# Altium footprint library Weerstation1.PcbLib: 25 footprints (part 1 of 2)
Each footprint in its own frame and in the unit in brackets; x right, y up, seen from the top. Pads: shape width x height; smd on the part's side, far side on the other; paste and mask are expansions set on the pad; w line width, h text height; cw(c..) or ccw(c..) is an arc to the next point about the centre after c.
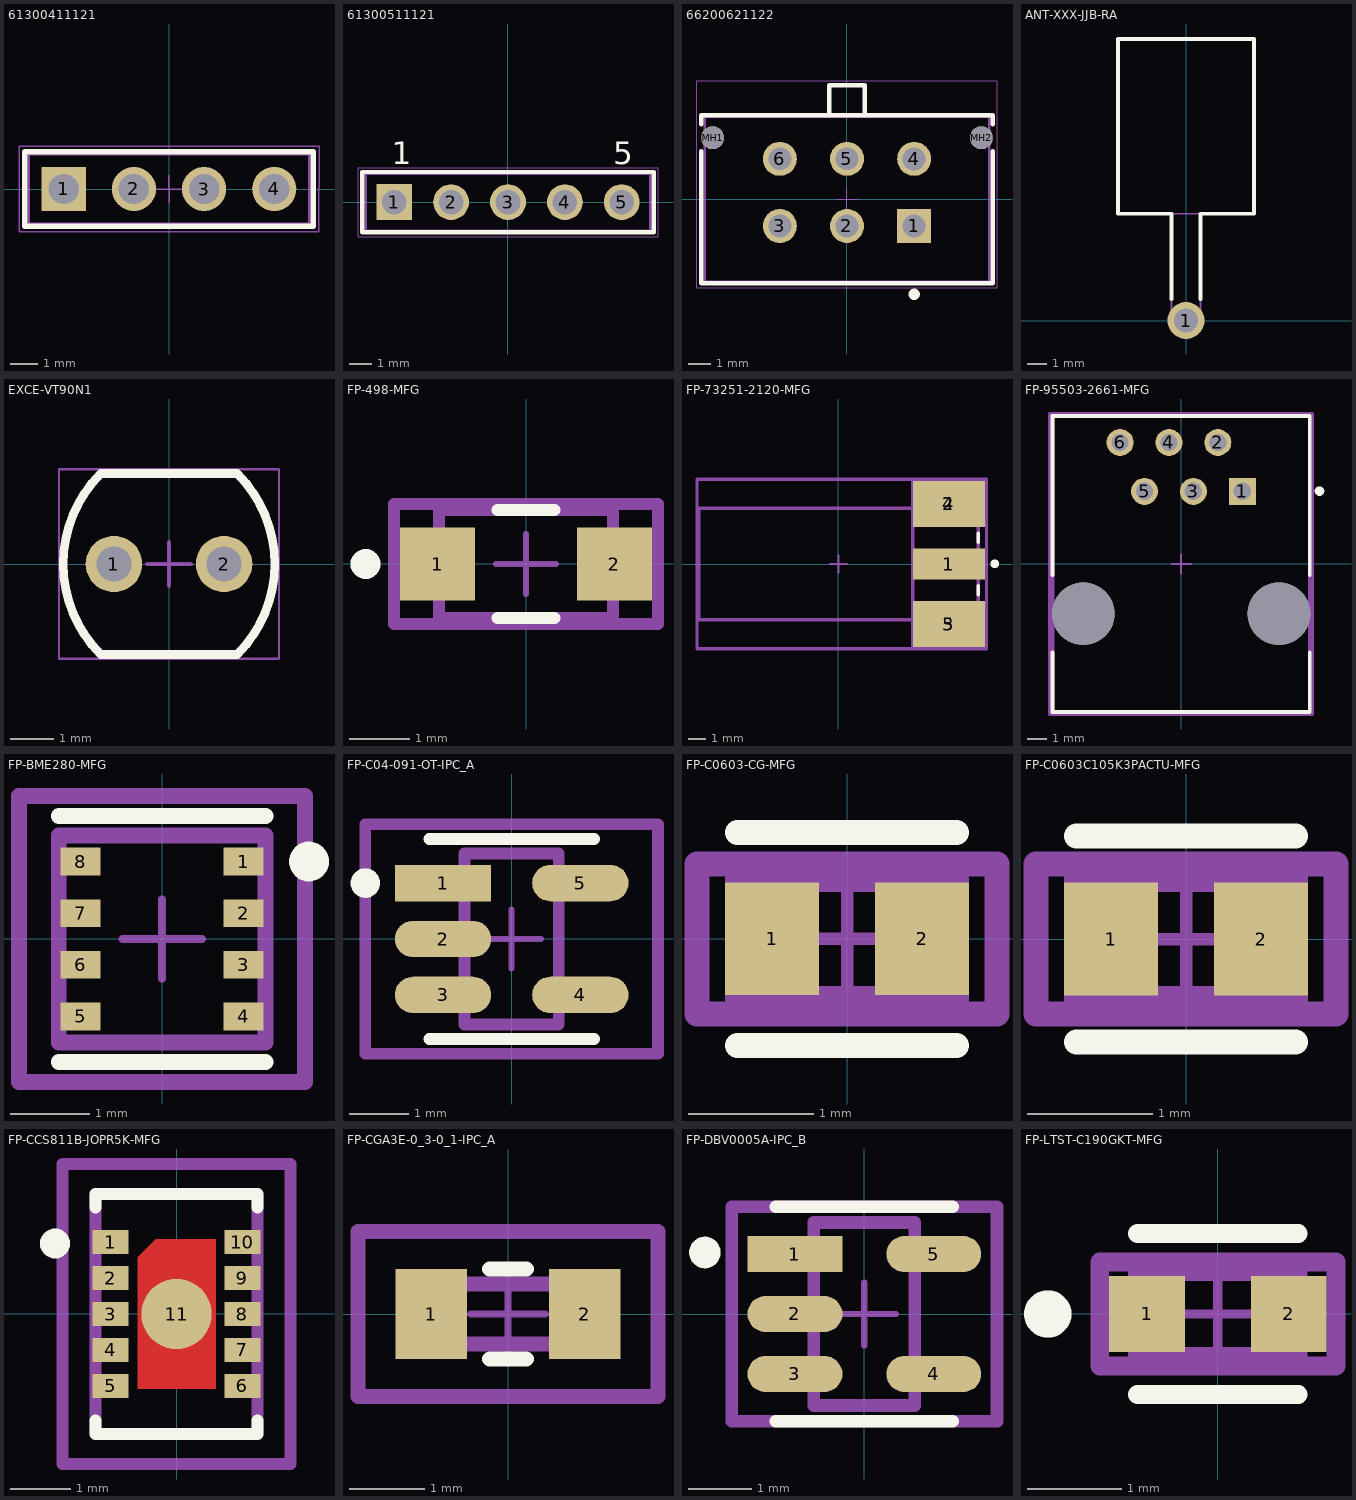
[diagram p0: the footprints below, top view; thin cyan lines are the x and y axes]

## 61300411121 [mm] "Pin Header, pitch 2.54 mm, THT, Vertical, single row, 4p"
height 8.54
pads (4):
  rect 1.6x1.6 hole 1.1: 1(-3.81,0)
  round 1.6 hole 1.1: 2(-1.27,0) 3(1.27,0) 4(3.81,0)
Top Overlay:
  lines w0.2: -5.23,-1.345 5.23,-1.345 5.23,1.345 -5.23,1.345 -5.23,-1.345
Mechanical 13:
  lines w0.1: -5.08,-1.27 -5.08,1.27 5.08,1.27 5.08,-1.27 -5.08,-1.27
Mechanical 15:
  lines w0.05: -0.5,0 0.5,0 ; 0,-0.5 0,0.5 ; -5.43,-1.545 -5.43,1.545 5.43,1.545 5.43,-1.545 -5.43,-1.545
3D body "61300411121.stp": height 8.57, standoff -2.97, extent -5.08,-1.27 5.08,1.27

## 61300511121 [mm] "Pin Header, pitch 2.54 mm, THT, Vertical, single row, 5p"
height 8.54
pads (5):
  rect 1.6x1.6 hole 1.1: 1(-5.08,0)
  round 1.6 hole 1.1: 2(-2.54,0) 3(0,0) 4(2.54,0) 5(5.08,0)
Top Overlay:
  lines w0.2: -6.5,-1.345 6.5,-1.345 6.5,1.345 -6.5,1.345 -6.5,-1.345
  text "1" at -5.2,1.7 h1.02
  text "5" at 4.7,1.7 h1.02
Mechanical 13:
  lines w0.1: -6.35,-1.27 -6.35,1.27 6.35,1.27 6.35,-1.27 -6.35,-1.27
Mechanical 15:
  lines w0.05: -0.5,0 0.5,0 ; 0,-0.5 0,0.5 ; -6.7,-1.545 -6.7,1.545 6.7,1.545 6.7,-1.545 -6.7,-1.545
3D body "61300511121.stp": height 8.57, standoff -2.97, extent -6.35,-1.27 6.35,1.27

## 66200621122 [mm] "Dual row Vertical header 06p"
height 9.9
pads (8):
  rect 1.52x1.52 hole 1.02: 1(3,-1.2)
  round 1.52 hole 1.02: 2(0,-1.2) 3(-3,-1.2) 4(3,1.8) 5(0,1.8) 6(-3,1.8)
  round 1.02 hole 1.02 unplated: MH1(-6,2.74) MH2(6,2.74)
Top Overlay:
  circle w0.25: c3,-4.25 r0.125
  lines w0.2: -6.5,2.145 -6.5,-3.755 6.5,-3.755 6.5,2.145 ; -6.5,3.345 -6.5,3.755 6.5,3.755 6.5,3.345 ; -0.8,3.755 -0.8,5.08 0.8,5.08 0.8,3.755
Mechanical 13:
  lines w0.1: -0.8,3.68 -0.8,5.08 0.8,5.08 0.8,3.68 ; -6.35,-3.68 -6.35,3.68 6.35,3.68 6.35,-3.68 -6.35,-3.68
Mechanical 15:
  lines w0.05: -0.5,0 0.5,0 ; 0,-0.5 0,0.5 ; -6.7,-3.955 -6.7,5.28 6.7,5.28 6.7,-3.955 -6.7,-3.955
3D body "66200621122.stp": height 9.93, standoff -3.17, extent -6.35,-3.68 6.35,5.08

## ANT-XXX-JJB-RA [mil] "Antenna, 1-Lead, Thru-Hole, Right-Angle, Body 7.0x9.0mm (Dia.xH typ)"
height 275.59
pads (1):
  round 75 hole 48: 1(0,0)
Top Overlay:
  lines w7.87: -29.53,43.31 -29.53,216.54 -137.8,216.54 -137.8,570.87 137.8,570.87 137.8,216.54 29.53,216.54 29.53,43.31
Mechanical 13:
  circle w3.94: c0,0 r29.53
  lines w3.94: -29.53,0 -29.53,216.54 ; 29.53,0 29.53,216.54 ; -137.8,216.54 137.8,216.54 137.8,570.87 -137.8,570.87 -137.8,216.54
3D body: height 137.8, standoff 0, extent -29.35,-29.29 29.59,29.53
3D body: height 275.47, standoff 0.12, extent -138.34,216.53 137.25,570.86
3D body: height 167.26, standoff 108.33, extent -29.3,0 29.53,216.53
3D body: height 167.32, standoff 108.27, extent -29.41,-29.41 29.65,29.42

## EXCE-VT90N1 [mm] "THD, 2-Leads, Body Width 4.17mm (Max), Height 2.29mm"
height 2.29
pads (2):
  round 1.3 hole 0.8: 1(-1.27,0) 2(1.27,0)
Top Overlay:
  lines w0.2: -1.575,-2.085 cw(c0.51,0) -1.575,2.085 1.575,2.085 cw(c-0.51,0) 1.575,-2.085 -1.575,-2.085
Mechanical 13:
  lines w0.1: -1.575,-2.085 cw(c0.51,0) -1.575,2.085 1.575,2.085 cw(c-0.51,0) 1.575,-2.085 -1.575,-2.085
Mechanical 15:
  lines w0.05: -2.54,-2.185 2.54,-2.185 2.54,2.185 -2.54,2.185 -2.54,-2.185
  lines w0.1: -0.5,0 0.5,0 ; 0,-0.5 0,0.5
3D body: height 2.29, standoff 0, extent -2.439,-2.086 2.439,2.086

## FP-498-MFG [mm]
pads (2):
  rect 1.25x1.22 smd paste+0 mask+0: 1(-1.475,0) 2(1.475,0)
Top Overlay:
  circle w0.25: c-2.675,0 r0.125
  lines w0.2: -0.475,-0.9 0.475,-0.9 ; -0.475,0.9 0.475,0.9
Mechanical 2:
  lines w0.2: -1.45,-0.9 -1.45,0.9 1.45,0.9 1.45,-0.9 -1.45,-0.9
Mechanical 4:
  lines w0.2: -2.2,-1 -2.2,1 2.2,1 2.2,-1 -2.2,-1
Mechanical 6:
  lines w0.2: -2.2,-1 -2.2,1 2.2,1 2.2,-1 -2.2,-1
  text ".Designator" at 0,-0.177 h1
Mechanical 8:
  lines w0.1: -0.5,0 0.5,0 ; 0,-0.5 0,0.5
3D body "Diode_ON_Semiconductor_NRVTS245ESFT1G_eec.STEP": height 0.25, standoff 0, extent -2.2,-1 2.2,1

## FP-73251-2120-MFG [mm]
pads (5):
  rect 4.19x1.78 smd paste+0 mask+0: 1(6.415,0)
  rect 4.19x2.665 smd paste+0 mask+0: 2(6.415,3.493) 3(6.415,-3.492)
  rect 4.19x2.665 smd far side paste+0 mask+0: 4(6.415,3.493) 5(6.415,-3.492)
Top Overlay:
  circle w0.25: c9.095,0.015 r0.125
  lines w0.2: 8.13,-1.785 8.13,-1.265 ; 8.13,1.265 8.13,1.785
Mechanical 2:
  lines w0.2: 4.32,-4.925 4.32,4.925 ; -8.13,-3.24 -8.13,3.24 8.13,3.24 8.13,-3.24 -8.13,-3.24
Mechanical 4:
  lines w0.2: -8.23,-4.925 -8.23,4.925 8.61,4.925 8.61,-4.925 -8.23,-4.925
Mechanical 6:
  lines w0.2: -8.23,-4.925 -8.23,4.925 8.61,4.925 8.61,-4.925 -8.23,-4.925
  text ".Designator" at 0.188,-0.177 h1
Mechanical 8:
  lines w0.1: -0.5,0 0.5,0 ; 0,-0.5 0,0.5
3D body "Conn_Molex_73251-2120_eec.STEP": height 0.25, standoff 0, extent -8.23,-4.925 8.61,4.925

## FP-95503-2661-MFG [mm]
pads (8):
  rect 1.4x1.4 hole 0.9 paste-1000 mask+0: 1(3.175,3.77)
  round 1.4 hole 0.9 paste-1000 mask+0: 2(1.905,6.31) 3(0.635,3.77) 4(-0.635,6.31) 5(-1.905,3.77) 6(-3.175,6.31)
  round 3.25 hole 3.25 unplated paste-1000 mask+0: ""(-5.08,-2.58) ""(5.08,-2.58)
Top Overlay:
  circle w0.25: c7.18,3.785 r0.125
  lines w0.2: -6.68,-4.58 -6.68,-7.69 6.68,-7.69 6.68,-4.58 ; -6.68,-0.58 -6.68,7.69 6.68,7.69 6.68,-0.58
Mechanical 2:
  lines w0.2: -6.68,-7.69 -6.68,7.69 6.68,7.69 6.68,-7.69 -6.68,-7.69
Mechanical 4:
  lines w0.2: -6.805,-7.79 -6.805,7.79 6.805,7.79 6.805,-7.79 -6.805,-7.79
Mechanical 6:
  lines w0.2: -6.805,-7.79 -6.805,7.79 6.805,7.79 6.805,-7.79 -6.805,-7.79
  text ".Designator" at -0.002,0.011 h1
Mechanical 8:
  lines w0.1: -0.5,0 0.5,0 ; 0,-0.5 0,0.5
3D body "Conn_Molex_95503-2661_eec.STEP": height 15.85, standoff -3.65, extent -6.605,-7.54 6.608,7.54

## FP-BME280-MFG [mm]
pads (8):
  rect 0.5x0.35 smd paste+0 mask+0: 1(1.025,0.975) 2(1.025,0.325) 3(1.025,-0.325) 4(1.025,-0.975) 5(-1.025,-0.975) 6(-1.025,-0.325) 7(-1.025,0.325) 8(-1.025,0.975)
Top Overlay:
  circle w0.25: c1.85,0.975 r0.125
  lines w0.2: -1.3,-1.55 1.3,-1.55 ; -1.3,1.55 1.3,1.55
Mechanical 2:
  lines w0.2: -1.3,-1.3 1.3,-1.3 1.3,1.3 -1.3,1.3 -1.3,-1.3
Mechanical 4:
  lines w0.2: -1.8,-1.8 1.8,-1.8 1.8,1.8 -1.8,1.8 -1.8,-1.8
Mechanical 6:
  lines w0.2: -1.8,-1.8 1.8,-1.8 1.8,1.8 -1.8,1.8 -1.8,-1.8
  text ".Designator" at 0,-0.177 h1
Mechanical 8:
  lines w0.1: -0.5,0 0.5,0 ; 0,-0.5 0,0.5

## FP-C04-091-OT-IPC_A [mil]
pads (5):
  rect 64.5x24.33 smd paste+0 mask+0: 1(-45.91,37.4)
  rrect100% 64.5x24.33 smd paste+0 mask+0: 2(-45.91,0) 3(-45.91,-37.4) 4(45.91,-37.4) 5(45.91,37.4)
Top Overlay:
  circle w9.84: c-97.85,37.4 r4.92
  lines w7.87: -55.12,-66.93 55.12,-66.93 ; -55.12,66.93 55.12,66.93
Mechanical 2:
  lines w7.87: -31.5,-57.09 31.5,-57.09 31.5,57.09 -31.5,57.09 -31.5,-57.09
Mechanical 4:
  lines w7.87: -97.85,-76.77 97.85,-76.77 97.85,76.77 -97.85,76.77 -97.85,-76.77
Mechanical 6:
  lines w7.87: -97.85,-76.77 97.85,-76.77 97.85,76.77 -97.85,76.77 -97.85,-76.77
  text ".Designator" at 0,0.44 h39.37
Mechanical 8:
  lines w3.94: -19.68,0 19.69,0 ; 0,-19.68 0,19.69

## FP-C0603-CG-MFG [mm]
pads (2):
  rect 0.75x0.9 smd paste+0 mask+0: 1(-0.6,0) 2(0.6,0)
Top Overlay:
  lines w0.2: -0.875,-0.85 0.875,-0.85 ; -0.875,0.85 0.875,0.85
Mechanical 2:
  lines w0.2: -0.875,-0.475 -0.875,0.475 0.875,0.475 0.875,-0.475 -0.875,-0.475
Mechanical 4:
  lines w0.2: -1.2,-0.6 -1.2,0.6 1.2,0.6 1.2,-0.6 -1.2,-0.6
Mechanical 6:
  lines w0.2: -1.2,-0.6 -1.2,0.6 1.2,0.6 1.2,-0.6 -1.2,-0.6
  text ".Designator" at 0,0.011 h1
Mechanical 8:
  lines w0.1: -0.5,0 0.5,0 ; 0,-0.5 0,0.5
3D body "Cap_Kemet_C0603C475K9PACTU_eec.STEP": height 0.25, standoff 0, extent -1.2,-0.6 1.2,0.6

## FP-C0603C105K3PACTU-MFG [mm]
pads (2):
  rect 0.75x0.9 smd paste+0 mask+0: 1(-0.6,0) 2(0.6,0)
Top Overlay:
  lines w0.2: -0.875,-0.825 0.875,-0.825 ; -0.875,0.825 0.875,0.825
Mechanical 2:
  lines w0.2: -0.875,-0.475 -0.875,0.475 0.875,0.475 0.875,-0.475 -0.875,-0.475
Mechanical 4:
  lines w0.2: -1.2,-0.6 -1.2,0.6 1.2,0.6 1.2,-0.6 -1.2,-0.6
Mechanical 6:
  lines w0.2: -1.2,-0.6 -1.2,0.6 1.2,0.6 1.2,-0.6 -1.2,-0.6
  text ".Designator" at 0,0.011 h1
Mechanical 8:
  lines w0.1: -0.5,0 0.5,0 ; 0,-0.5 0,0.5
3D body "Cap_Kemet_C0603C105K3PACTU_eec.STEP": height 0.25, standoff 0, extent -1.2,-0.6 1.2,0.6

## FP-CCS811B-JOPR5K-MFG [mm]
pads (11):
  rect 0.6x0.4 smd paste+0 mask+0: 1(-1.1,1.2) 2(-1.1,0.6) 3(-1.1,0) 4(-1.1,-0.6) 5(-1.1,-1.2) 6(1.1,-1.2) 7(1.1,-0.6) 8(1.1,0) 9(1.1,0.6) 10(1.1,1.2)
  round 1.17 smd paste+0 mask+0: 11(0,0)
Top Layer:
  region: -0.65,0.95 -0.65,-1.25 0.65,-1.25 0.65,1.25 -0.35,1.25
Top Overlay:
  circle w0.25: c-2.025,1.175 r0.125
  lines w0.2: -1.35,-1.775 -1.35,-2 1.35,-2 1.35,-1.775 ; -1.35,1.775 -1.35,2 1.35,2 1.35,1.775
Mechanical 2:
  lines w0.2: -1.35,-2 1.35,-2 1.35,2 -1.35,2 -1.35,-2
Mechanical 4:
  lines w0.2: -1.9,-2.5 1.9,-2.5 1.9,2.5 -1.9,2.5 -1.9,-2.5
Mechanical 6:
  lines w0.2: -1.9,-2.5 1.9,-2.5 1.9,2.5 -1.9,2.5 -1.9,-2.5
  text ".Designator" at 0,0.011 h1
Mechanical 8:
  lines w0.1: -0.5,0 0.5,0 ; 0,-0.5 0,0.5
3D body "IC_ams_CCS811B-JOPR5K_eec.STEP": height 0.25, standoff 0, extent -1.9,-2.5 1.9,2.5

## FP-CGA3E-0_3-0_1-IPC_A [mm]
pads (2):
  rect 0.956x1.206 smd paste+0 mask+0: 1(-1.025,0) 2(1.025,0)
Top Overlay:
  lines w0.2: -0.247,-0.603 0.247,-0.603 ; -0.247,0.603 0.247,0.603
Mechanical 2:
  lines w0.2: -0.8,-0.4 -0.8,0.4 0.8,0.4 0.8,-0.4 -0.8,-0.4
Mechanical 4:
  lines w0.2: -2.003,-1.103 -2.003,1.103 2.003,1.103 2.003,-1.103 -2.003,-1.103
Mechanical 6:
  lines w0.2: -2.003,-1.103 -2.003,1.103 2.003,1.103 2.003,-1.103 -2.003,-1.103
  text ".Designator" at 0,0.011 h1
Mechanical 8:
  lines w0.1: -0.5,0 0.5,0 ; 0,-0.5 0,0.5
3D body "Cap_TDK_CGA3E3X7R1E334K080AB_eec.STEP": height 0.25, standoff 0, extent -2.003,-1.103 2.003,1.103

## FP-DBV0005A-IPC_B [mm]
pads (5):
  rect 1.505x0.572 smd paste+0 mask+0: 1(-1.1,0.95)
  rrect100% 1.505x0.572 smd paste+0 mask+0: 2(-1.1,0) 3(-1.1,-0.95) 4(1.1,-0.95) 5(1.1,0.95)
Top Overlay:
  circle w0.25: c-2.528,0.975 r0.125
  lines w0.2: -1.4,-1.7 1.4,-1.7 ; -1.4,1.7 1.4,1.7
Mechanical 2:
  lines w0.2: -0.8,-1.45 -0.8,1.45 0.8,1.45 0.8,-1.45 -0.8,-1.45
Mechanical 4:
  lines w0.2: -2.103,-1.7 -2.103,1.7 2.103,1.7 2.103,-1.7 -2.103,-1.7
Mechanical 6:
  lines w0.2: -2.103,-1.7 -2.103,1.7 2.103,1.7 2.103,-1.7 -2.103,-1.7
  text ".Designator" at 0,-0.177 h1
Mechanical 8:
  lines w0.1: -0.5,0 0.5,0 ; 0,-0.5 0,0.5
3D body "IC_Texas_Instruments_SN74AHC1G00DBVR_eec.STEP": height 0.25, standoff 0, extent -2.103,-1.7 2.103,1.7

## FP-LTST-C190GKT-MFG [mm]
pads (2):
  rect 0.8x0.8 smd paste+0 mask+0: 1(-0.75,0) 2(0.75,0)
Top Overlay:
  circle w0.25: c-1.8,0 r0.125
  lines w0.2: -0.85,-0.85 0.85,-0.85 ; -0.85,0.85 0.85,0.85
Mechanical 2:
  lines w0.2: -0.85,-0.45 0.85,-0.45 0.85,0.45 -0.85,0.45 -0.85,-0.45
Mechanical 4:
  lines w0.2: -1.25,-0.55 1.25,-0.55 1.25,0.55 -1.25,0.55 -1.25,-0.55
Mechanical 6:
  lines w0.2: -1.25,-0.55 1.25,-0.55 1.25,0.55 -1.25,0.55 -1.25,-0.55
  text ".Designator" at 0,-0.188 h1
Mechanical 8:
  lines w0.1: -0.5,0 0.5,0 ; 0,-0.5 0,0.5
3D body "Diode_Lite-On_LTST-C190GKT_eec.STEP": height 0.25, standoff 0, extent -1.25,-0.55 1.25,0.55